# EAGLE library part NANO-28X (library basicmicro)
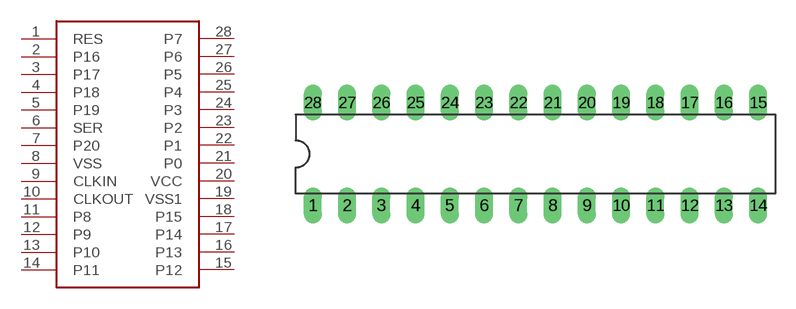
[diagram p11: symbol with the pads of DIL28; footprint DIL28]

Designator prefix -

## NANO-28X  [DIL28]
1  RES  pwr
2  P16
3  P17
4  P18
5  P19
6  SER  pwr
7  P20
8  VSS  pwr
9  CLKIN
10  CLKOUT
11  P8
12  P9
13  P10
14  P11
15  P12
16  P13
17  P14
18  P15
19  VSS1  pwr
20  VCC  pwr
21  P0
22  P1
23  P2
24  P3
25  P4
26  P5
27  P6
28  P7

## Footprint DIL28 (pad centres in mm)
drill 0.813 long: 1 -16.51,-3.81; 2 -13.97,-3.81; 3 -11.43,-3.81; 4 -8.89,-3.81; 5 -6.35,-3.81; 6 -3.81,-3.81; 7 -1.27,-3.81; 8 1.27,-3.81; 9 3.81,-3.81; 10 6.35,-3.81; 11 8.89,-3.81; 12 11.43,-3.81; 13 13.97,-3.81; 14 16.51,-3.81; 15 16.51,3.81; 16 13.97,3.81; 17 11.43,3.81; 18 8.89,3.81; 19 6.35,3.81; 20 3.81,3.81; 21 1.27,3.81; 22 -1.27,3.81; 23 -3.81,3.81; 24 -6.35,3.81; 25 -8.89,3.81; 26 -11.43,3.81; 27 -13.97,3.81; 28 -16.51,3.81